# Altium integrated library TI Amplifiers and Linear Instrumentation Amplifier.IntLib: 274 symbols (part 3 of 10)
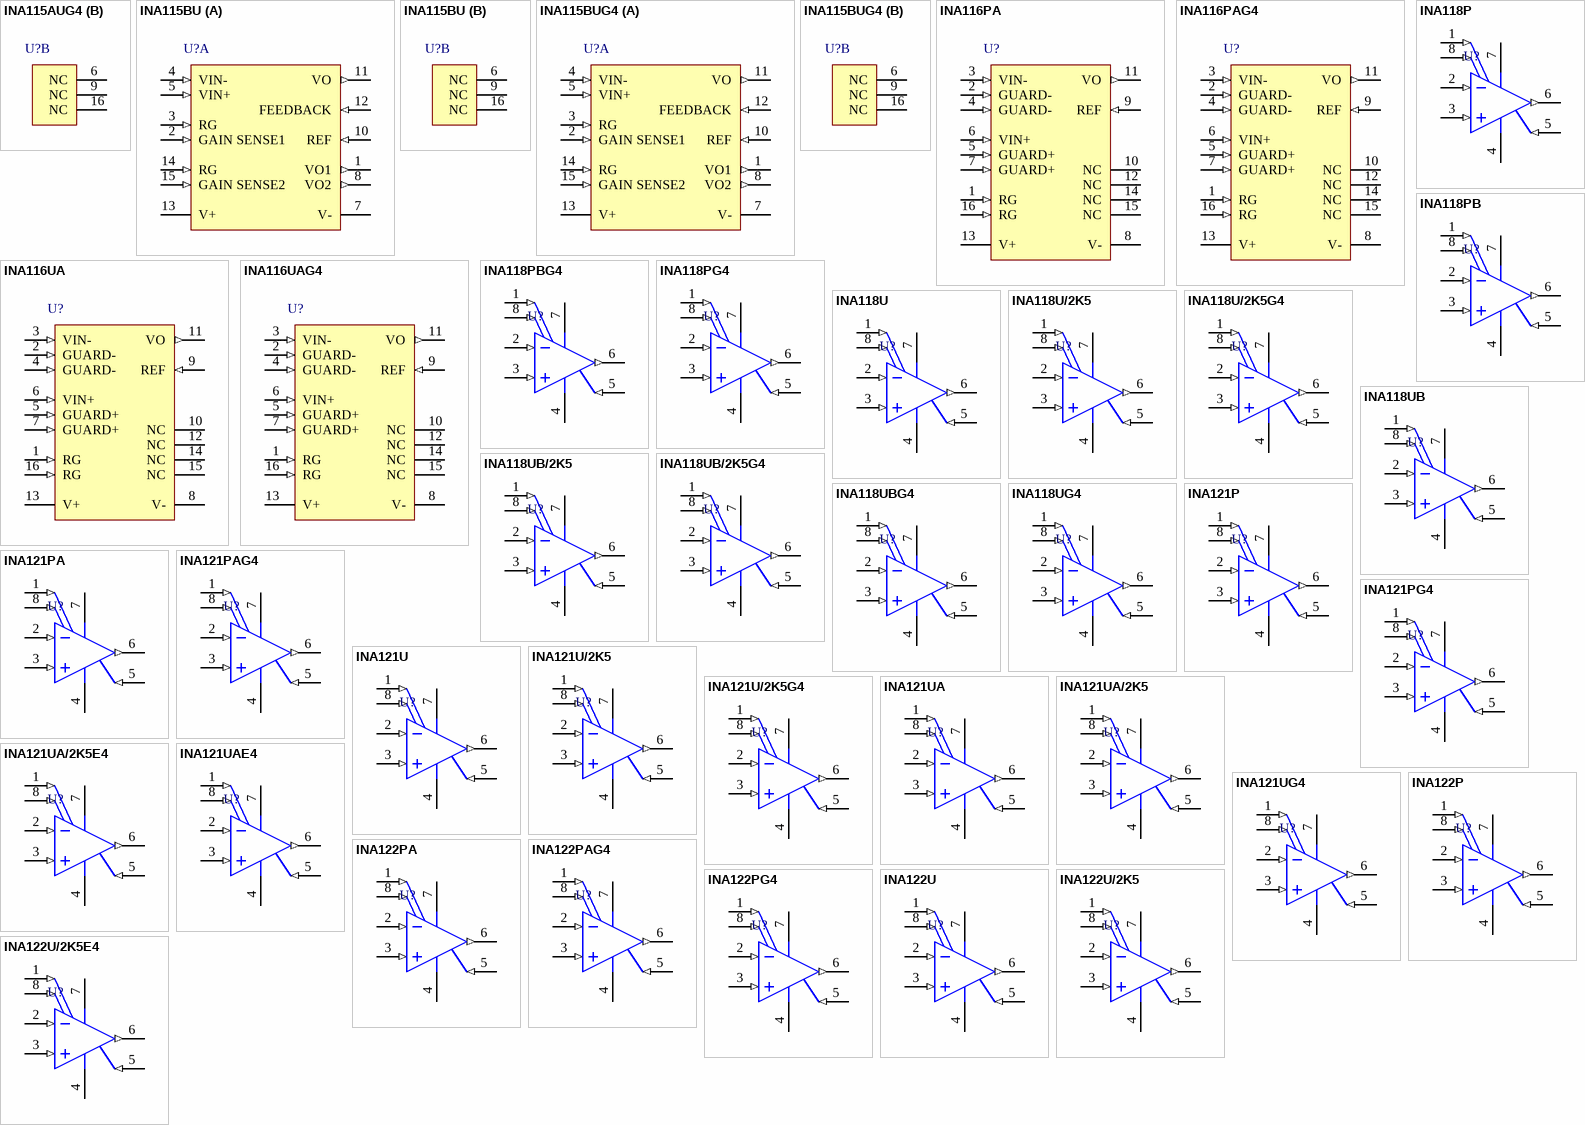
[diagram p10: symbols INA115AUG4 to INA122U/2K5E4]

## INA118PBG4
designator U?
Precision, Low Power Instrumentation Amplifier, -40 to 85 degC, 8-pin DIP (P8), Green (RoHS & no Sb/Br); Manufacturer: Texas Instruments; PartNumber: INA118PBG4; CMRR(Min)(dB): 107; Gain(V/V): 1 to 10000; Input Bias Current (+/-)(Max)(nA): 5; Input Offset (+/-)(Max)(uV): 50; Input Offset Drift (+/-)(Max)(uV/Degrees Celsius): 0.5; Noise at 1kHz(Typ)(nV/rt(Hz)): 10; Non-Linearity (+/-)(Max)(%): 0.002; Number of Channels: 1; Output Offset (+/-)(Max)(uV): 500/G; Output Offset Drift (+/-)(Max)(uV/Degrees Celsius): 20/G; Quiescent Current (+/-)(Typ)(mA): 0.35; SubFamily: Single Supply; Vs(Max)(V): 36; Vs(Min)(V): 2.7; DatasheetVersion: SBOS027; PackageVersion: 4040082/E, 04/2010; PackageReference: P8; PackageDescription: 8-Pin Plastic In-Line, Body 9.59 x 6.35 mm, Pitch 2.54 mm; Supplier 1: Digi-Key; Supplier Part Number 1: INA118PBG4-ND; Supplier 2: Newark; Supplier Part Number 2: 99K2229; Supplier 3: Mouser; Supplier Part Number 3: 595-INA118PBG4; Eco-Plan: Green (RoHS & no Sb/Br); Mounting Technology: Through Hole; Code_JEDEC: MS-001; ComponentLink1Description: Manufacturer URL; ComponentLink1URL: http://www.ti.com/; ComponentLink2Description: Datasheet; ComponentLink2URL: http://www.ti.com/general/docs/lit/getliterature.tsp?genericPartNumber=INA118&fileType=pdf; ComponentLink3Description: Package Specification; ComponentLink3URL: http://www.ti.com/litv/pdf/mpdi001b
footprint TI-P8 (DIP, 8-Leads, Body 10.15x6.6mm, Pitch 2.54mm)
pins: 1 RG (in), 2 VIN- (in), 3 VIN+ (in), 4 V- (power), 5 REF (in), 6 VO (out), 7 V+ (power), 8 RG (in)

## INA118PG4
designator U?
Precision, Low Power Instrumentation Amplifier, -40 to 85 degC, 8-pin DIP (P8), Green (RoHS & no Sb/Br); Manufacturer: Texas Instruments; PartNumber: INA118PG4; CMRR(Min)(dB): 98; Gain(V/V): 1 to 10000; Input Bias Current (+/-)(Max)(nA): 10; Input Offset (+/-)(Max)(uV): 125; Input Offset Drift (+/-)(Max)(uV/Degrees Celsius): 1; Non-Linearity (+/-)(Max)(%): 0.004; Output Offset (+/-)(Max)(uV): 1000/G; Output Offset Drift (+/-)(Max)(uV/Degrees Celsius): 20/G; Quiescent Current (+/-)(Typ)(mA): 0.35; SubFamily: Single Supply; Vs(Max)(V): 36; Vs(Min)(V): 2.7; DatasheetVersion: SBOS027; PackageVersion: 4040082/E, 04/2010; PackageReference: P8; PackageDescription: 8-Pin Plastic In-Line, Body 9.59 x 6.35 mm, Pitch 2.54 mm; Supplier 1: Digi-Key; Supplier Part Number 1: INA118PG4-ND; Supplier 2: Newark; Supplier Part Number 2: 03M8166; Supplier 3: Mouser; Supplier Part Number 3: 595-INA118PG4; Eco-Plan: Green (RoHS & no Sb/Br); Noise at 1kHz(Typ)(nV/rt(Hz)): 10; Number of Channels: 1; Mounting Technology: Through Hole; Code_JEDEC: MS-001; ComponentLink1Description: Manufacturer URL; ComponentLink1URL: http://www.ti.com/; ComponentLink2Description: Datasheet; ComponentLink2URL: http://www.ti.com/general/docs/lit/getliterature.tsp?genericPartNumber=INA118&fileType=pdf; ComponentLink3Description: Package Specification; ComponentLink3URL: http://www.ti.com/litv/pdf/mpdi001b
footprint TI-P8 (DIP, 8-Leads, Body 10.15x6.6mm, Pitch 2.54mm)
pins: 1 RG (in), 2 VIN- (in), 3 VIN+ (in), 4 V- (power), 5 REF (in), 6 VO (out), 7 V+ (power), 8 RG (in)

## INA118U
designator U?
Precision, Low Power Instrumentation Amplifier, -40 to 85 degC, 8-pin SOIC (D8), Green (RoHS & no Sb/Br); Manufacturer: Texas Instruments; PartNumber: INA118U; CMRR(Min)(dB): 98; Gain(V/V): 1 to 10000; Input Bias Current (+/-)(Max)(nA): 10; Input Offset (+/-)(Max)(uV): 125; Input Offset Drift (+/-)(Max)(uV/Degrees Celsius): 1; Non-Linearity (+/-)(Max)(%): 0.004; Output Offset (+/-)(Max)(uV): 1000/G; Output Offset Drift (+/-)(Max)(uV/Degrees Celsius): 20/G; Quiescent Current (+/-)(Typ)(mA): 0.35; SubFamily: Single Supply; Vs(Max)(V): 36; Vs(Min)(V): 2.7; DatasheetVersion: SBOS027; PackageVersion: 4040047-3/M, 06/2011; PackageReference: D8; PackageDescription: 8-Pin Plastic Small Outline, Body 4.9 x 3.9 mm, Pitch 1.27 mm; Supplier 1: Digi-Key; Supplier Part Number 1: INA118U-ND; Supplier 2: Farnell; Supplier Part Number 2: 1212404; Supplier 3: Newark; Supplier Part Number 3: 04M6168; Supplier 4: Mouser; Supplier Part Number 4: 595-INA118U; Eco-Plan: Green (RoHS & no Sb/Br); Noise at 1kHz(Typ)(nV/rt(Hz)): 10; Number of Channels: 1; Mounting Technology: Surface Mount; Code_JEDEC: MS-012; ComponentLink1Description: Manufacturer URL; ComponentLink1URL: http://www.ti.com/; ComponentLink2Description: Datasheet; ComponentLink2URL: http://www.ti.com/general/docs/lit/getliterature.tsp?genericPartNumber=INA118&fileType=pdf; ComponentLink3Description: Package Specification; ComponentLink3URL: http://www.ti.com/litv/pdf/msoi002j
footprint TI-D8_N (SOIC, 8-Leads, Body 5x4mm, Pitch 1.27mm, IPC Medium Density)
footprint TI-D8_L (SOIC, 8-Leads, Body 5x4mm, Pitch 1.27mm, IPC High Density)
footprint TI-D8_M (SOIC, 8-Leads, Body 5x4mm, Pitch 1.27mm, IPC Low Density)
pins: 1 RG (in), 2 VIN- (in), 3 VIN+ (in), 4 V- (power), 5 REF (in), 6 VO (out), 7 V+ (power), 8 RG (in)

## INA118U/2K5
designator U?
Precision, Low Power Instrumentation Amplifier, -40 to 85 degC, 8-pin SOIC (D8), Green (RoHS & no Sb/Br); Manufacturer: Texas Instruments; PartNumber: INA118U/2K5; CMRR(Min)(dB): 98; Gain(V/V): 1 to 10000; Input Bias Current (+/-)(Max)(nA): 10; Input Offset (+/-)(Max)(uV): 125; Input Offset Drift (+/-)(Max)(uV/Degrees Celsius): 1; Non-Linearity (+/-)(Max)(%): 0.004; Output Offset (+/-)(Max)(uV): 1000/G; Output Offset Drift (+/-)(Max)(uV/Degrees Celsius): 20/G; Quiescent Current (+/-)(Typ)(mA): 0.35; SubFamily: Single Supply; Vs(Max)(V): 36; Vs(Min)(V): 2.7; DatasheetVersion: SBOS027; PackageVersion: 4040047-3/M, 06/2011; PackageReference: D8; PackageDescription: 8-Pin Plastic Small Outline, Body 4.9 x 3.9 mm, Pitch 1.27 mm; Supplier 1: Digi-Key; Supplier Part Number 1: 296-26056-2-ND; Supplier 2: Digi-Key; Supplier Part Number 2: 296-26056-1-ND; Supplier 3: Digi-Key; Supplier Part Number 3: 296-26056-6-ND; Supplier 4: Newark; Supplier Part Number 4: 74C9768; Supplier 5: Mouser; Supplier Part Number 5: 595-INA118U/2K5; Eco-Plan: Green (RoHS & no Sb/Br); Noise at 1kHz(Typ)(nV/rt(Hz)): 10; Number of Channels: 1; Mounting Technology: Surface Mount; Code_JEDEC: MS-012; ComponentLink1Description: Manufacturer URL; ComponentLink1URL: http://www.ti.com/; ComponentLink2Description: Datasheet; ComponentLink2URL: http://www.ti.com/general/docs/lit/getliterature.tsp?genericPartNumber=INA118&fileType=pdf; ComponentLink3Description: Package Specification; ComponentLink3URL: http://www.ti.com/litv/pdf/msoi002j
footprint TI-D8_N (SOIC, 8-Leads, Body 5x4mm, Pitch 1.27mm, IPC Medium Density)
footprint TI-D8_L (SOIC, 8-Leads, Body 5x4mm, Pitch 1.27mm, IPC High Density)
footprint TI-D8_M (SOIC, 8-Leads, Body 5x4mm, Pitch 1.27mm, IPC Low Density)
pins: 1 RG (in), 2 VIN- (in), 3 VIN+ (in), 4 V- (power), 5 REF (in), 6 VO (out), 7 V+ (power), 8 RG (in)

## INA118U/2K5G4
designator U?
Precision, Low Power Instrumentation Amplifier, -40 to 85 degC, 8-pin SOIC (D8), Green (RoHS & no Sb/Br); Manufacturer: Texas Instruments; PartNumber: INA118U/2K5G4; CMRR(Min)(dB): 98; Gain(V/V): 1 to 10000; Input Bias Current (+/-)(Max)(nA): 10; Input Offset (+/-)(Max)(uV): 125; Input Offset Drift (+/-)(Max)(uV/Degrees Celsius): 1; Non-Linearity (+/-)(Max)(%): 0.004; Output Offset (+/-)(Max)(uV): 1000/G; Output Offset Drift (+/-)(Max)(uV/Degrees Celsius): 20/G; Quiescent Current (+/-)(Typ)(mA): 0.35; SubFamily: Single Supply; Vs(Max)(V): 36; Vs(Min)(V): 2.7; DatasheetVersion: SBOS027; PackageVersion: 4040047-3/M, 06/2011; PackageReference: D8; PackageDescription: 8-Pin Plastic Small Outline, Body 4.9 x 3.9 mm, Pitch 1.27 mm; Supplier 1: Digi-Key; Supplier Part Number 1: INA118U/2K5G4-ND; Supplier 2: Newark; Supplier Part Number 2: 18M2383; Supplier 3: Mouser; Supplier Part Number 3: 595-INA118U/2K5G4; Eco-Plan: Green (RoHS & no Sb/Br); Noise at 1kHz(Typ)(nV/rt(Hz)): 10; Number of Channels: 1; Mounting Technology: Surface Mount; Code_JEDEC: MS-012; ComponentLink1Description: Manufacturer URL; ComponentLink1URL: http://www.ti.com/; ComponentLink2Description: Datasheet; ComponentLink2URL: http://www.ti.com/general/docs/lit/getliterature.tsp?genericPartNumber=INA118&fileType=pdf; ComponentLink3Description: Package Specification; ComponentLink3URL: http://www.ti.com/litv/pdf/msoi002j
footprint TI-D8_N (SOIC, 8-Leads, Body 5x4mm, Pitch 1.27mm, IPC Medium Density)
footprint TI-D8_L (SOIC, 8-Leads, Body 5x4mm, Pitch 1.27mm, IPC High Density)
footprint TI-D8_M (SOIC, 8-Leads, Body 5x4mm, Pitch 1.27mm, IPC Low Density)
pins: 1 RG (in), 2 VIN- (in), 3 VIN+ (in), 4 V- (power), 5 REF (in), 6 VO (out), 7 V+ (power), 8 RG (in)

## INA118UB
designator U?
Precision, Low Power Instrumentation Amplifier, -40 to 85 degC, 8-pin SOIC (D8), Green (RoHS & no Sb/Br); Manufacturer: Texas Instruments; PartNumber: INA118UB; CMRR(Min)(dB): 107; Gain(V/V): 1 to 10000; Input Bias Current (+/-)(Max)(nA): 5; Input Offset (+/-)(Max)(uV): 50; Input Offset Drift (+/-)(Max)(uV/Degrees Celsius): 0.5; Noise at 1kHz(Typ)(nV/rt(Hz)): 10; Non-Linearity (+/-)(Max)(%): 0.002; Number of Channels: 1; Output Offset (+/-)(Max)(uV): 500/G; Output Offset Drift (+/-)(Max)(uV/Degrees Celsius): 20/G; Quiescent Current (+/-)(Typ)(mA): 0.35; SubFamily: Single Supply; Vs(Max)(V): 36; Vs(Min)(V): 2.7; DatasheetVersion: SBOS027; PackageVersion: 4040047-3/M, 06/2011; PackageReference: D8; PackageDescription: 8-Pin Plastic Small Outline, Body 4.9 x 3.9 mm, Pitch 1.27 mm; Supplier 1: Digi-Key; Supplier Part Number 1: INA118UB-ND; Supplier 2: Farnell; Supplier Part Number 2: 1212405; Supplier 3: Newark; Supplier Part Number 3: 05M0439; Supplier 4: Mouser; Supplier Part Number 4: 595-INA118UB; Eco-Plan: Green (RoHS & no Sb/Br); Mounting Technology: Surface Mount; Code_JEDEC: MS-012; ComponentLink1Description: Manufacturer URL; ComponentLink1URL: http://www.ti.com/; ComponentLink2Description: Datasheet; ComponentLink2URL: http://www.ti.com/general/docs/lit/getliterature.tsp?genericPartNumber=INA118&fileType=pdf; ComponentLink3Description: Package Specification; ComponentLink3URL: http://www.ti.com/litv/pdf/msoi002j
footprint TI-D8_N (SOIC, 8-Leads, Body 5x4mm, Pitch 1.27mm, IPC Medium Density)
footprint TI-D8_L (SOIC, 8-Leads, Body 5x4mm, Pitch 1.27mm, IPC High Density)
footprint TI-D8_M (SOIC, 8-Leads, Body 5x4mm, Pitch 1.27mm, IPC Low Density)
pins: 1 RG (in), 2 VIN- (in), 3 VIN+ (in), 4 V- (power), 5 REF (in), 6 VO (out), 7 V+ (power), 8 RG (in)

## INA118UB/2K5
designator U?
Precision, Low Power Instrumentation Amplifier, -40 to 85 degC, 8-pin SOIC (D8), Green (RoHS & no Sb/Br); Manufacturer: Texas Instruments; PartNumber: INA118UB/2K5; CMRR(Min)(dB): 107; Gain(V/V): 1 to 10000; Input Bias Current (+/-)(Max)(nA): 5; Input Offset (+/-)(Max)(uV): 50; Input Offset Drift (+/-)(Max)(uV/Degrees Celsius): 0.5; Noise at 1kHz(Typ)(nV/rt(Hz)): 10; Non-Linearity (+/-)(Max)(%): 0.002; Number of Channels: 1; Output Offset (+/-)(Max)(uV): 500/G; Output Offset Drift (+/-)(Max)(uV/Degrees Celsius): 20/G; Quiescent Current (+/-)(Typ)(mA): 0.35; SubFamily: Single Supply; Vs(Max)(V): 36; Vs(Min)(V): 2.7; DatasheetVersion: SBOS027; PackageVersion: 4040047-3/M, 06/2011; PackageReference: D8; PackageDescription: 8-Pin Plastic Small Outline, Body 4.9 x 3.9 mm, Pitch 1.27 mm; Supplier 1: Digi-Key; Supplier Part Number 1: INA118UB/2K5-ND; Supplier 2: Newark; Supplier Part Number 2: 74C9769; Supplier 3: Mouser; Supplier Part Number 3: 595-INA118UB/2K5; Eco-Plan: Green (RoHS & no Sb/Br); Mounting Technology: Surface Mount; Code_JEDEC: MS-012; ComponentLink1Description: Manufacturer URL; ComponentLink1URL: http://www.ti.com/; ComponentLink2Description: Datasheet; ComponentLink2URL: http://www.ti.com/general/docs/lit/getliterature.tsp?genericPartNumber=INA118&fileType=pdf; ComponentLink3Description: Package Specification; ComponentLink3URL: http://www.ti.com/litv/pdf/msoi002j
footprint TI-D8_N (SOIC, 8-Leads, Body 5x4mm, Pitch 1.27mm, IPC Medium Density)
footprint TI-D8_L (SOIC, 8-Leads, Body 5x4mm, Pitch 1.27mm, IPC High Density)
footprint TI-D8_M (SOIC, 8-Leads, Body 5x4mm, Pitch 1.27mm, IPC Low Density)
pins: 1 RG (in), 2 VIN- (in), 3 VIN+ (in), 4 V- (power), 5 REF (in), 6 VO (out), 7 V+ (power), 8 RG (in)

## INA118UB/2K5G4
designator U?
Precision, Low Power Instrumentation Amplifier, -40 to 85 degC, 8-pin SOIC (D8), Green (RoHS & no Sb/Br); Manufacturer: Texas Instruments; PartNumber: INA118UB/2K5G4; CMRR(Min)(dB): 107; Gain(V/V): 1 to 10000; Input Bias Current (+/-)(Max)(nA): 5; Input Offset (+/-)(Max)(uV): 50; Input Offset Drift (+/-)(Max)(uV/Degrees Celsius): 0.5; Noise at 1kHz(Typ)(nV/rt(Hz)): 10; Non-Linearity (+/-)(Max)(%): 0.002; Number of Channels: 1; Output Offset (+/-)(Max)(uV): 500/G; Output Offset Drift (+/-)(Max)(uV/Degrees Celsius): 20/G; Quiescent Current (+/-)(Typ)(mA): 0.35; SubFamily: Single Supply; Vs(Max)(V): 36; Vs(Min)(V): 2.7; DatasheetVersion: SBOS027; PackageVersion: 4040047-3/M, 06/2011; PackageReference: D8; PackageDescription: 8-Pin Plastic Small Outline, Body 4.9 x 3.9 mm, Pitch 1.27 mm; Supplier 1: Digi-Key; Supplier Part Number 1: INA118UB/2K5G4-ND; Supplier 2: Mouser; Supplier Part Number 2: 595-INA118UB/2K5G4; Eco-Plan: Green (RoHS & no Sb/Br); Mounting Technology: Surface Mount; Code_JEDEC: MS-012; ComponentLink1Description: Manufacturer URL; ComponentLink1URL: http://www.ti.com/; ComponentLink2Description: Datasheet; ComponentLink2URL: http://www.ti.com/general/docs/lit/getliterature.tsp?genericPartNumber=INA118&fileType=pdf; ComponentLink3Description: Package Specification; ComponentLink3URL: http://www.ti.com/litv/pdf/msoi002j
footprint TI-D8_N (SOIC, 8-Leads, Body 5x4mm, Pitch 1.27mm, IPC Medium Density)
footprint TI-D8_L (SOIC, 8-Leads, Body 5x4mm, Pitch 1.27mm, IPC High Density)
footprint TI-D8_M (SOIC, 8-Leads, Body 5x4mm, Pitch 1.27mm, IPC Low Density)
pins: 1 RG (in), 2 VIN- (in), 3 VIN+ (in), 4 V- (power), 5 REF (in), 6 VO (out), 7 V+ (power), 8 RG (in)

## INA118UBG4
designator U?
Precision, Low Power Instrumentation Amplifier, -40 to 85 degC, 8-pin SOIC (D8), Green (RoHS & no Sb/Br); Manufacturer: Texas Instruments; PartNumber: INA118UBG4; CMRR(Min)(dB): 107; Gain(V/V): 1 to 10000; Input Bias Current (+/-)(Max)(nA): 5; Input Offset (+/-)(Max)(uV): 50; Input Offset Drift (+/-)(Max)(uV/Degrees Celsius): 0.5; Noise at 1kHz(Typ)(nV/rt(Hz)): 10; Non-Linearity (+/-)(Max)(%): 0.002; Number of Channels: 1; Output Offset (+/-)(Max)(uV): 500/G; Output Offset Drift (+/-)(Max)(uV/Degrees Celsius): 20/G; Quiescent Current (+/-)(Typ)(mA): 0.35; SubFamily: Single Supply; Vs(Max)(V): 36; Vs(Min)(V): 2.7; DatasheetVersion: SBOS027; PackageVersion: 4040047-3/M, 06/2011; PackageReference: D8; PackageDescription: 8-Pin Plastic Small Outline, Body 4.9 x 3.9 mm, Pitch 1.27 mm; Supplier 1: Digi-Key; Supplier Part Number 1: INA118UBG4-ND; Supplier 2: Newark; Supplier Part Number 2: 30M1228; Supplier 3: Mouser; Supplier Part Number 3: 595-INA118UBG4; Eco-Plan: Green (RoHS & no Sb/Br); Mounting Technology: Surface Mount; Code_JEDEC: MS-012; ComponentLink1Description: Manufacturer URL; ComponentLink1URL: http://www.ti.com/; ComponentLink2Description: Datasheet; ComponentLink2URL: http://www.ti.com/general/docs/lit/getliterature.tsp?genericPartNumber=INA118&fileType=pdf; ComponentLink3Description: Package Specification; ComponentLink3URL: http://www.ti.com/litv/pdf/msoi002j
footprint TI-D8_N (SOIC, 8-Leads, Body 5x4mm, Pitch 1.27mm, IPC Medium Density)
footprint TI-D8_L (SOIC, 8-Leads, Body 5x4mm, Pitch 1.27mm, IPC High Density)
footprint TI-D8_M (SOIC, 8-Leads, Body 5x4mm, Pitch 1.27mm, IPC Low Density)
pins: 1 RG (in), 2 VIN- (in), 3 VIN+ (in), 4 V- (power), 5 REF (in), 6 VO (out), 7 V+ (power), 8 RG (in)

## INA118UG4
designator U?
Precision, Low Power Instrumentation Amplifier, -40 to 85 degC, 8-pin SOIC (D8), Green (RoHS & no Sb/Br); Manufacturer: Texas Instruments; PartNumber: INA118UG4; CMRR(Min)(dB): 98; Gain(V/V): 1 to 10000; Input Bias Current (+/-)(Max)(nA): 10; Input Offset (+/-)(Max)(uV): 125; Input Offset Drift (+/-)(Max)(uV/Degrees Celsius): 1; Non-Linearity (+/-)(Max)(%): 0.004; Output Offset (+/-)(Max)(uV): 1000/G; Output Offset Drift (+/-)(Max)(uV/Degrees Celsius): 20/G; Quiescent Current (+/-)(Typ)(mA): 0.35; SubFamily: Single Supply; Vs(Max)(V): 36; Vs(Min)(V): 2.7; DatasheetVersion: SBOS027; PackageVersion: 4040047-3/M, 06/2011; PackageReference: D8; PackageDescription: 8-Pin Plastic Small Outline, Body 4.9 x 3.9 mm, Pitch 1.27 mm; Supplier 1: Digi-Key; Supplier Part Number 1: INA118UG4-ND; Supplier 2: Newark; Supplier Part Number 2: 28M6059; Supplier 3: Mouser; Supplier Part Number 3: 595-INA118UG4; Eco-Plan: Green (RoHS & no Sb/Br); Noise at 1kHz(Typ)(nV/rt(Hz)): 10; Number of Channels: 1; Mounting Technology: Surface Mount; Code_JEDEC: MS-012; ComponentLink1Description: Manufacturer URL; ComponentLink1URL: http://www.ti.com/; ComponentLink2Description: Datasheet; ComponentLink2URL: http://www.ti.com/general/docs/lit/getliterature.tsp?genericPartNumber=INA118&fileType=pdf; ComponentLink3Description: Package Specification; ComponentLink3URL: http://www.ti.com/litv/pdf/msoi002j
footprint TI-D8_N (SOIC, 8-Leads, Body 5x4mm, Pitch 1.27mm, IPC Medium Density)
footprint TI-D8_L (SOIC, 8-Leads, Body 5x4mm, Pitch 1.27mm, IPC High Density)
footprint TI-D8_M (SOIC, 8-Leads, Body 5x4mm, Pitch 1.27mm, IPC Low Density)
pins: 1 RG (in), 2 VIN- (in), 3 VIN+ (in), 4 V- (power), 5 REF (in), 6 VO (out), 7 V+ (power), 8 RG (in)

## INA121P
designator U?
FET-Input, Low Power Instrumentation Amplifier, -40 to 85 degC, 8-pin DIP (P8), Green (RoHS & no Sb/Br); Manufacturer: Texas Instruments; PartNumber: INA121P; CMRR(Min)(dB): 96; Gain(V/V): 1 to 10000; Input Bias Current (+/-)(Max)(nA): 0.05; Input Offset (+/-)(Max)(uV): 500; Input Offset Drift (+/-)(Max)(uV/Degrees Celsius): 5; Noise at 1kHz(Typ)(nV/rt(Hz)): 20; Non-Linearity (+/-)(Max)(%): 0.005; Number of Channels: 1; Output Offset (+/-)(Max)(uV): 500/G; Output Offset Drift (+/-)(Max)(uV/Degrees Celsius): 20/G; Quiescent Current (+/-)(Typ)(mA): 0.45; SubFamily: Dual Supply; Vs(Max)(V): 36; Vs(Min)(V): 4.5; DatasheetVersion: SBOS078; PackageVersion: 4040082/E, 04/2010; PackageReference: P8; PackageDescription: 8-Pin Plastic In-Line, Body 9.59 x 6.35 mm, Pitch 2.54 mm; Supplier 1: Digi-Key; Supplier Part Number 1: INA121P-ND; Supplier 2: Farnell; Supplier Part Number 2: 1651851; Supplier 3: Newark; Supplier Part Number 3: 80K5898; Supplier 4: Mouser; Supplier Part Number 4: 595-INA121P; Eco-Plan: Green (RoHS & no Sb/Br); Mounting Technology: Through Hole; Code_JEDEC: MS-001; ComponentLink1Description: Manufacturer URL; ComponentLink1URL: http://www.ti.com/; ComponentLink2Description: Datasheet; ComponentLink2URL: http://www.ti.com/general/docs/lit/getliterature.tsp?genericPartNumber=INA121&fileType=pdf; ComponentLink3Description: Package Specification; ComponentLink3URL: http://www.ti.com/litv/pdf/mpdi001b
footprint TI-P8 (DIP, 8-Leads, Body 10.15x6.6mm, Pitch 2.54mm)
pins: 1 RG (in), 2 VIN- (in), 3 VIN+ (in), 4 V- (power), 5 REF (in), 6 VO (out), 7 V+ (power), 8 RG (in)

## INA121PA
designator U?
FET-Input, Low Power Instrumentation Amplifier, -40 to 85 degC, 8-pin DIP (P8), Green (RoHS & no Sb/Br); Manufacturer: Texas Instruments; PartNumber: INA121PA; CMRR(Min)(dB): 90; Gain(V/V): 1 to 10000; Input Bias Current (+/-)(Max)(nA): 0.05; Input Offset (+/-)(Max)(uV): 1000; Input Offset Drift (+/-)(Max)(uV/Degrees Celsius): 15; Noise at 1kHz(Typ)(nV/rt(Hz)): 20; Non-Linearity (+/-)(Max)(%): 0.008; Number of Channels: 1; Output Offset (+/-)(Max)(uV): 1000/G; Output Offset Drift (+/-)(Max)(uV/Degrees Celsius): 20/G; Quiescent Current (+/-)(Typ)(mA): 0.45; SubFamily: Dual Supply; Vs(Max)(V): 36; Vs(Min)(V): 4.5; DatasheetVersion: SBOS078; PackageVersion: 4040082/E, 04/2010; PackageReference: P8; PackageDescription: 8-Pin Plastic In-Line, Body 9.59 x 6.35 mm, Pitch 2.54 mm; Supplier 1: Digi-Key; Supplier Part Number 1: INA121PA-ND; Supplier 2: Newark; Supplier Part Number 2: 35C0485; Supplier 3: Mouser; Supplier Part Number 3: 595-INA121PA; Eco-Plan: Green (RoHS & no Sb/Br); Mounting Technology: Through Hole; Code_JEDEC: MS-001; ComponentLink1Description: Manufacturer URL; ComponentLink1URL: http://www.ti.com/; ComponentLink2Description: Datasheet; ComponentLink2URL: http://www.ti.com/general/docs/lit/getliterature.tsp?genericPartNumber=INA121&fileType=pdf; ComponentLink3Description: Package Specification; ComponentLink3URL: http://www.ti.com/litv/pdf/mpdi001b
footprint TI-P8 (DIP, 8-Leads, Body 10.15x6.6mm, Pitch 2.54mm)
pins: 1 RG (in), 2 VIN- (in), 3 VIN+ (in), 4 V- (power), 5 REF (in), 6 VO (out), 7 V+ (power), 8 RG (in)

## INA121PAG4
designator U?
FET-Input, Low Power Instrumentation Amplifier, -40 to 85 degC, 8-pin DIP (P8), Green (RoHS & no Sb/Br); Manufacturer: Texas Instruments; PartNumber: INA121PAG4; CMRR(Min)(dB): 90; Gain(V/V): 1 to 10000; Input Bias Current (+/-)(Max)(nA): 0.05; Input Offset (+/-)(Max)(uV): 1000; Input Offset Drift (+/-)(Max)(uV/Degrees Celsius): 15; Noise at 1kHz(Typ)(nV/rt(Hz)): 20; Non-Linearity (+/-)(Max)(%): 0.008; Number of Channels: 1; Output Offset (+/-)(Max)(uV): 1000/G; Output Offset Drift (+/-)(Max)(uV/Degrees Celsius): 20/G; Quiescent Current (+/-)(Typ)(mA): 0.45; SubFamily: Dual Supply; Vs(Max)(V): 36; Vs(Min)(V): 4.5; DatasheetVersion: SBOS078; PackageVersion: 4040082/E, 04/2010; PackageReference: P8; PackageDescription: 8-Pin Plastic In-Line, Body 9.59 x 6.35 mm, Pitch 2.54 mm; Supplier 1: Digi-Key; Supplier Part Number 1: INA121PAG4-ND; Supplier 2: Newark; Supplier Part Number 2: 14M1994; Supplier 3: Mouser; Supplier Part Number 3: 595-INA121PAG4; Eco-Plan: Green (RoHS & no Sb/Br); Mounting Technology: Through Hole; Code_JEDEC: MS-001; ComponentLink1Description: Manufacturer URL; ComponentLink1URL: http://www.ti.com/; ComponentLink2Description: Datasheet; ComponentLink2URL: http://www.ti.com/general/docs/lit/getliterature.tsp?genericPartNumber=INA121&fileType=pdf; ComponentLink3Description: Package Specification; ComponentLink3URL: http://www.ti.com/litv/pdf/mpdi001b
footprint TI-P8 (DIP, 8-Leads, Body 10.15x6.6mm, Pitch 2.54mm)
pins: 1 RG (in), 2 VIN- (in), 3 VIN+ (in), 4 V- (power), 5 REF (in), 6 VO (out), 7 V+ (power), 8 RG (in)

## INA121PG4
designator U?
FET-Input, Low Power Instrumentation Amplifier, -40 to 85 degC, 8-pin DIP (P8), Green (RoHS & no Sb/Br); Manufacturer: Texas Instruments; PartNumber: INA121PG4; CMRR(Min)(dB): 96; Gain(V/V): 1 to 10000; Input Bias Current (+/-)(Max)(nA): 0.05; Input Offset (+/-)(Max)(uV): 500; Input Offset Drift (+/-)(Max)(uV/Degrees Celsius): 5; Noise at 1kHz(Typ)(nV/rt(Hz)): 20; Non-Linearity (+/-)(Max)(%): 0.005; Number of Channels: 1; Output Offset (+/-)(Max)(uV): 500/G; Output Offset Drift (+/-)(Max)(uV/Degrees Celsius): 20/G; Quiescent Current (+/-)(Typ)(mA): 0.45; SubFamily: Dual Supply; Vs(Max)(V): 36; Vs(Min)(V): 4.5; DatasheetVersion: SBOS078; PackageVersion: 4040082/E, 04/2010; PackageReference: P8; PackageDescription: 8-Pin Plastic In-Line, Body 9.59 x 6.35 mm, Pitch 2.54 mm; Supplier 1: Digi-Key; Supplier Part Number 1: INA121PG4-ND; Supplier 2: Newark; Supplier Part Number 2: 28M6060; Supplier 3: Mouser; Supplier Part Number 3: 595-INA121PG4; Eco-Plan: Green (RoHS & no Sb/Br); Mounting Technology: Through Hole; Code_JEDEC: MS-001; ComponentLink1Description: Manufacturer URL; ComponentLink1URL: http://www.ti.com/; ComponentLink2Description: Datasheet; ComponentLink2URL: http://www.ti.com/general/docs/lit/getliterature.tsp?genericPartNumber=INA121&fileType=pdf; ComponentLink3Description: Package Specification; ComponentLink3URL: http://www.ti.com/litv/pdf/mpdi001b
footprint TI-P8 (DIP, 8-Leads, Body 10.15x6.6mm, Pitch 2.54mm)
pins: 1 RG (in), 2 VIN- (in), 3 VIN+ (in), 4 V- (power), 5 REF (in), 6 VO (out), 7 V+ (power), 8 RG (in)

## INA121U
designator U?
FET-Input, Low Power Instrumentation Amplifier, -40 to 85 degC, 8-pin SOIC (D8), Green (RoHS & no Sb/Br); Manufacturer: Texas Instruments; PartNumber: INA121U; CMRR(Min)(dB): 96; Gain(V/V): 1 to 10000; Input Bias Current (+/-)(Max)(nA): 0.05; Input Offset (+/-)(Max)(uV): 500; Input Offset Drift (+/-)(Max)(uV/Degrees Celsius): 5; Noise at 1kHz(Typ)(nV/rt(Hz)): 20; Non-Linearity (+/-)(Max)(%): 0.005; Number of Channels: 1; Output Offset (+/-)(Max)(uV): 500/G; Output Offset Drift (+/-)(Max)(uV/Degrees Celsius): 20/G; Quiescent Current (+/-)(Typ)(mA): 0.45; SubFamily: Dual Supply; Vs(Max)(V): 36; Vs(Min)(V): 4.5; DatasheetVersion: SBOS078; PackageVersion: 4040047-3/M, 06/2011; PackageReference: D8; PackageDescription: 8-Pin Plastic Small Outline, Body 4.9 x 3.9 mm, Pitch 1.27 mm; Supplier 1: Digi-Key; Supplier Part Number 1: INA121U-ND; Supplier 2: Farnell; Supplier Part Number 2: 1212406; Supplier 3: Newark; Supplier Part Number 3: 35C1723; Supplier 4: Mouser; Supplier Part Number 4: 595-INA121U; Eco-Plan: Green (RoHS & no Sb/Br); Mounting Technology: Surface Mount; Code_JEDEC: MS-012; ComponentLink1Description: Manufacturer URL; ComponentLink1URL: http://www.ti.com/; ComponentLink2Description: Datasheet; ComponentLink2URL: http://www.ti.com/general/docs/lit/getliterature.tsp?genericPartNumber=INA121&fileType=pdf; ComponentLink3Description: Package Specification; ComponentLink3URL: http://www.ti.com/litv/pdf/msoi002j
footprint TI-D8_N (SOIC, 8-Leads, Body 5x4mm, Pitch 1.27mm, IPC Medium Density)
footprint TI-D8_L (SOIC, 8-Leads, Body 5x4mm, Pitch 1.27mm, IPC High Density)
footprint TI-D8_M (SOIC, 8-Leads, Body 5x4mm, Pitch 1.27mm, IPC Low Density)
pins: 1 RG (in), 2 VIN- (in), 3 VIN+ (in), 4 V- (power), 5 REF (in), 6 VO (out), 7 V+ (power), 8 RG (in)

## INA121U/2K5
designator U?
FET-Input, Low Power Instrumentation Amplifier, -40 to 85 degC, 8-pin SOIC (D8), Green (RoHS & no Sb/Br); Manufacturer: Texas Instruments; PartNumber: INA121U/2K5; CMRR(Min)(dB): 96; Gain(V/V): 1 to 10000; Input Bias Current (+/-)(Max)(nA): 0.05; Input Offset (+/-)(Max)(uV): 500; Input Offset Drift (+/-)(Max)(uV/Degrees Celsius): 5; Noise at 1kHz(Typ)(nV/rt(Hz)): 20; Non-Linearity (+/-)(Max)(%): 0.005; Number of Channels: 1; Output Offset (+/-)(Max)(uV): 500/G; Output Offset Drift (+/-)(Max)(uV/Degrees Celsius): 20/G; Quiescent Current (+/-)(Typ)(mA): 0.45; SubFamily: Dual Supply; Vs(Max)(V): 36; Vs(Min)(V): 4.5; DatasheetVersion: SBOS078; PackageVersion: 4040047-3/M, 06/2011; PackageReference: D8; PackageDescription: 8-Pin Plastic Small Outline, Body 4.9 x 3.9 mm, Pitch 1.27 mm; Supplier 1: Digi-Key; Supplier Part Number 1: INA121UTR-ND; Supplier 2: Mouser; Supplier Part Number 2: 595-INA121U/2K5; Eco-Plan: Green (RoHS & no Sb/Br); Mounting Technology: Surface Mount; Code_JEDEC: MS-012; ComponentLink1Description: Manufacturer URL; ComponentLink1URL: http://www.ti.com/; ComponentLink2Description: Datasheet; ComponentLink2URL: http://www.ti.com/general/docs/lit/getliterature.tsp?genericPartNumber=INA121&fileType=pdf; ComponentLink3Description: Package Specification; ComponentLink3URL: http://www.ti.com/litv/pdf/msoi002j
footprint TI-D8_N (SOIC, 8-Leads, Body 5x4mm, Pitch 1.27mm, IPC Medium Density)
footprint TI-D8_L (SOIC, 8-Leads, Body 5x4mm, Pitch 1.27mm, IPC High Density)
footprint TI-D8_M (SOIC, 8-Leads, Body 5x4mm, Pitch 1.27mm, IPC Low Density)
pins: 1 RG (in), 2 VIN- (in), 3 VIN+ (in), 4 V- (power), 5 REF (in), 6 VO (out), 7 V+ (power), 8 RG (in)

## INA121U/2K5G4
designator U?
FET-Input, Low Power Instrumentation Amplifier, -40 to 85 degC, 8-pin SOIC (D8), Green (RoHS & no Sb/Br); Manufacturer: Texas Instruments; PartNumber: INA121U/2K5G4; CMRR(Min)(dB): 96; Gain(V/V): 1 to 10000; Input Bias Current (+/-)(Max)(nA): 0.05; Input Offset (+/-)(Max)(uV): 500; Input Offset Drift (+/-)(Max)(uV/Degrees Celsius): 5; Noise at 1kHz(Typ)(nV/rt(Hz)): 20; Non-Linearity (+/-)(Max)(%): 0.005; Number of Channels: 1; Output Offset (+/-)(Max)(uV): 500/G; Output Offset Drift (+/-)(Max)(uV/Degrees Celsius): 20/G; Quiescent Current (+/-)(Typ)(mA): 0.45; SubFamily: Dual Supply; Vs(Max)(V): 36; Vs(Min)(V): 4.5; DatasheetVersion: SBOS078; PackageVersion: 4040047-3/M, 06/2011; PackageReference: D8; PackageDescription: 8-Pin Plastic Small Outline, Body 4.9 x 3.9 mm, Pitch 1.27 mm; Supplier 1: Digi-Key; Supplier Part Number 1: INA121U/2K5G4-ND; Supplier 2: Mouser; Supplier Part Number 2: 595-INA121U/2K5G4; Eco-Plan: Green (RoHS & no Sb/Br); Mounting Technology: Surface Mount; Code_JEDEC: MS-012; ComponentLink1Description: Manufacturer URL; ComponentLink1URL: http://www.ti.com/; ComponentLink2Description: Datasheet; ComponentLink2URL: http://www.ti.com/general/docs/lit/getliterature.tsp?genericPartNumber=INA121&fileType=pdf; ComponentLink3Description: Package Specification; ComponentLink3URL: http://www.ti.com/litv/pdf/msoi002j
footprint TI-D8_N (SOIC, 8-Leads, Body 5x4mm, Pitch 1.27mm, IPC Medium Density)
footprint TI-D8_L (SOIC, 8-Leads, Body 5x4mm, Pitch 1.27mm, IPC High Density)
footprint TI-D8_M (SOIC, 8-Leads, Body 5x4mm, Pitch 1.27mm, IPC Low Density)
pins: 1 RG (in), 2 VIN- (in), 3 VIN+ (in), 4 V- (power), 5 REF (in), 6 VO (out), 7 V+ (power), 8 RG (in)

## INA121UA
designator U?
FET-Input, Low Power Instrumentation Amplifier, -40 to 85 degC, 8-pin SOIC (D8), Green (RoHS & no Sb/Br); Manufacturer: Texas Instruments; PartNumber: INA121UA; CMRR(Min)(dB): 90; Gain(V/V): 1 to 10000; Input Bias Current (+/-)(Max)(nA): 0.05; Input Offset (+/-)(Max)(uV): 1000; Input Offset Drift (+/-)(Max)(uV/Degrees Celsius): 15; Noise at 1kHz(Typ)(nV/rt(Hz)): 20; Non-Linearity (+/-)(Max)(%): 0.008; Number of Channels: 1; Output Offset (+/-)(Max)(uV): 1000/G; Output Offset Drift (+/-)(Max)(uV/Degrees Celsius): 20/G; Quiescent Current (+/-)(Typ)(mA): 0.45; SubFamily: Dual Supply; Vs(Max)(V): 36; Vs(Min)(V): 4.5; DatasheetVersion: SBOS078; PackageVersion: 4040047-3/M, 06/2011; PackageReference: D8; PackageDescription: 8-Pin Plastic Small Outline, Body 4.9 x 3.9 mm, Pitch 1.27 mm; Supplier 1: Digi-Key; Supplier Part Number 1: INA121UA-ND; Supplier 2: Farnell; Supplier Part Number 2: 1648644; Supplier 3: Newark; Supplier Part Number 3: 35C0486; Supplier 4: Mouser; Supplier Part Number 4: 595-INA121UA; Eco-Plan: Green (RoHS & no Sb/Br); Mounting Technology: Surface Mount; Code_JEDEC: MS-012; ComponentLink1Description: Manufacturer URL; ComponentLink1URL: http://www.ti.com/; ComponentLink2Description: Datasheet; ComponentLink2URL: http://www.ti.com/general/docs/lit/getliterature.tsp?genericPartNumber=INA121&fileType=pdf; ComponentLink3Description: Package Specification; ComponentLink3URL: http://www.ti.com/litv/pdf/msoi002j
footprint TI-D8_N (SOIC, 8-Leads, Body 5x4mm, Pitch 1.27mm, IPC Medium Density)
footprint TI-D8_L (SOIC, 8-Leads, Body 5x4mm, Pitch 1.27mm, IPC High Density)
footprint TI-D8_M (SOIC, 8-Leads, Body 5x4mm, Pitch 1.27mm, IPC Low Density)
pins: 1 RG (in), 2 VIN- (in), 3 VIN+ (in), 4 V- (power), 5 REF (in), 6 VO (out), 7 V+ (power), 8 RG (in)

## INA121UA/2K5
designator U?
FET-Input, Low Power Instrumentation Amplifier, -40 to 85 degC, 8-pin SOIC (D8), Green (RoHS & no Sb/Br); Manufacturer: Texas Instruments; PartNumber: INA121UA/2K5; CMRR(Min)(dB): 90; Gain(V/V): 1 to 10000; Input Bias Current (+/-)(Max)(nA): 0.05; Input Offset (+/-)(Max)(uV): 1000; Input Offset Drift (+/-)(Max)(uV/Degrees Celsius): 15; Noise at 1kHz(Typ)(nV/rt(Hz)): 20; Non-Linearity (+/-)(Max)(%): 0.008; Number of Channels: 1; Output Offset (+/-)(Max)(uV): 1000/G; Output Offset Drift (+/-)(Max)(uV/Degrees Celsius): 20/G; Quiescent Current (+/-)(Typ)(mA): 0.45; SubFamily: Dual Supply; Vs(Max)(V): 36; Vs(Min)(V): 4.5; DatasheetVersion: SBOS078; PackageVersion: 4040047-3/M, 06/2011; PackageReference: D8; PackageDescription: 8-Pin Plastic Small Outline, Body 4.9 x 3.9 mm, Pitch 1.27 mm; Supplier 1: Digi-Key; Supplier Part Number 1: INA121UATR-ND; Supplier 2: Newark; Supplier Part Number 2: 74C9771; Supplier 3: Mouser; Supplier Part Number 3: 595-INA121UA/2K5; Eco-Plan: Green (RoHS & no Sb/Br); Mounting Technology: Surface Mount; Code_JEDEC: MS-012; ComponentLink1Description: Manufacturer URL; ComponentLink1URL: http://www.ti.com/; ComponentLink2Description: Datasheet; ComponentLink2URL: http://www.ti.com/general/docs/lit/getliterature.tsp?genericPartNumber=INA121&fileType=pdf; ComponentLink3Description: Package Specification; ComponentLink3URL: http://www.ti.com/litv/pdf/msoi002j
footprint TI-D8_N (SOIC, 8-Leads, Body 5x4mm, Pitch 1.27mm, IPC Medium Density)
footprint TI-D8_L (SOIC, 8-Leads, Body 5x4mm, Pitch 1.27mm, IPC High Density)
footprint TI-D8_M (SOIC, 8-Leads, Body 5x4mm, Pitch 1.27mm, IPC Low Density)
pins: 1 RG (in), 2 VIN- (in), 3 VIN+ (in), 4 V- (power), 5 REF (in), 6 VO (out), 7 V+ (power), 8 RG (in)

## INA121UA/2K5E4
designator U?
FET-Input, Low Power Instrumentation Amplifier, -40 to 85 degC, 8-pin SOIC (D8), Green (RoHS & no Sb/Br); Manufacturer: Texas Instruments; PartNumber: INA121UA/2K5E4; CMRR(Min)(dB): 90; Gain(V/V): 1 to 10000; Input Bias Current (+/-)(Max)(nA): 0.05; Input Offset (+/-)(Max)(uV): 1000; Input Offset Drift (+/-)(Max)(uV/Degrees Celsius): 15; Noise at 1kHz(Typ)(nV/rt(Hz)): 20; Non-Linearity (+/-)(Max)(%): 0.008; Number of Channels: 1; Output Offset (+/-)(Max)(uV): 1000/G; Output Offset Drift (+/-)(Max)(uV/Degrees Celsius): 20/G; Quiescent Current (+/-)(Typ)(mA): 0.45; SubFamily: Dual Supply; Vs(Max)(V): 36; Vs(Min)(V): 4.5; DatasheetVersion: SBOS078; PackageVersion: 4040047-3/M, 06/2011; PackageReference: D8; PackageDescription: 8-Pin Plastic Small Outline, Body 4.9 x 3.9 mm, Pitch 1.27 mm; Supplier 1: Digi-Key; Supplier Part Number 1: INA121UA/2K5E4-ND; Supplier 2: Mouser; Supplier Part Number 2: 595-INA121UA/2K5E4; Eco-Plan: Green (RoHS & no Sb/Br); Mounting Technology: Surface Mount; Code_JEDEC: MS-012; ComponentLink1Description: Manufacturer URL; ComponentLink1URL: http://www.ti.com/; ComponentLink2Description: Datasheet; ComponentLink2URL: http://www.ti.com/general/docs/lit/getliterature.tsp?genericPartNumber=INA121&fileType=pdf; ComponentLink3Description: Package Specification; ComponentLink3URL: http://www.ti.com/litv/pdf/msoi002j
footprint TI-D8_N (SOIC, 8-Leads, Body 5x4mm, Pitch 1.27mm, IPC Medium Density)
footprint TI-D8_L (SOIC, 8-Leads, Body 5x4mm, Pitch 1.27mm, IPC High Density)
footprint TI-D8_M (SOIC, 8-Leads, Body 5x4mm, Pitch 1.27mm, IPC Low Density)
pins: 1 RG (in), 2 VIN- (in), 3 VIN+ (in), 4 V- (power), 5 REF (in), 6 VO (out), 7 V+ (power), 8 RG (in)

## INA121UAE4
designator U?
FET-Input, Low Power Instrumentation Amplifier, -40 to 85 degC, 8-pin SOIC (D8), Green (RoHS & no Sb/Br); Manufacturer: Texas Instruments; PartNumber: INA121UAE4; CMRR(Min)(dB): 90; Gain(V/V): 1 to 10000; Input Bias Current (+/-)(Max)(nA): 0.05; Input Offset (+/-)(Max)(uV): 1000; Input Offset Drift (+/-)(Max)(uV/Degrees Celsius): 15; Noise at 1kHz(Typ)(nV/rt(Hz)): 20; Non-Linearity (+/-)(Max)(%): 0.008; Number of Channels: 1; Output Offset (+/-)(Max)(uV): 1000/G; Output Offset Drift (+/-)(Max)(uV/Degrees Celsius): 20/G; Quiescent Current (+/-)(Typ)(mA): 0.45; SubFamily: Dual Supply; Vs(Max)(V): 36; Vs(Min)(V): 4.5; DatasheetVersion: SBOS078; PackageVersion: 4040047-3/M, 06/2011; PackageReference: D8; PackageDescription: 8-Pin Plastic Small Outline, Body 4.9 x 3.9 mm, Pitch 1.27 mm; Supplier 1: Digi-Key; Supplier Part Number 1: INA121UAE4-ND; Supplier 2: Mouser; Supplier Part Number 2: 595-INA121UAE4; Eco-Plan: Green (RoHS & no Sb/Br); Mounting Technology: Surface Mount; Code_JEDEC: MS-012; ComponentLink1Description: Manufacturer URL; ComponentLink1URL: http://www.ti.com/; ComponentLink2Description: Datasheet; ComponentLink2URL: http://www.ti.com/general/docs/lit/getliterature.tsp?genericPartNumber=INA121&fileType=pdf; ComponentLink3Description: Package Specification; ComponentLink3URL: http://www.ti.com/litv/pdf/msoi002j
footprint TI-D8_N (SOIC, 8-Leads, Body 5x4mm, Pitch 1.27mm, IPC Medium Density)
footprint TI-D8_L (SOIC, 8-Leads, Body 5x4mm, Pitch 1.27mm, IPC High Density)
footprint TI-D8_M (SOIC, 8-Leads, Body 5x4mm, Pitch 1.27mm, IPC Low Density)
pins: 1 RG (in), 2 VIN- (in), 3 VIN+ (in), 4 V- (power), 5 REF (in), 6 VO (out), 7 V+ (power), 8 RG (in)

## INA121UG4
designator U?
FET-Input, Low Power Instrumentation Amplifier, -40 to 85 degC, 8-pin SOIC (D8), Green (RoHS & no Sb/Br); Manufacturer: Texas Instruments; PartNumber: INA121UG4; CMRR(Min)(dB): 96; Gain(V/V): 1 to 10000; Input Bias Current (+/-)(Max)(nA): 0.05; Input Offset (+/-)(Max)(uV): 500; Input Offset Drift (+/-)(Max)(uV/Degrees Celsius): 5; Noise at 1kHz(Typ)(nV/rt(Hz)): 20; Non-Linearity (+/-)(Max)(%): 0.005; Number of Channels: 1; Output Offset (+/-)(Max)(uV): 500/G; Output Offset Drift (+/-)(Max)(uV/Degrees Celsius): 20/G; Quiescent Current (+/-)(Typ)(mA): 0.45; SubFamily: Dual Supply; Vs(Max)(V): 36; Vs(Min)(V): 4.5; DatasheetVersion: SBOS078; PackageVersion: 4040047-3/M, 06/2011; PackageReference: D8; PackageDescription: 8-Pin Plastic Small Outline, Body 4.9 x 3.9 mm, Pitch 1.27 mm; Supplier 1: Digi-Key; Supplier Part Number 1: INA121UG4-ND; Supplier 2: Newark; Supplier Part Number 2: 28M6063; Supplier 3: Mouser; Supplier Part Number 3: 595-INA121UG4; Eco-Plan: Green (RoHS & no Sb/Br); Mounting Technology: Surface Mount; Code_JEDEC: MS-012; ComponentLink1Description: Manufacturer URL; ComponentLink1URL: http://www.ti.com/; ComponentLink2Description: Datasheet; ComponentLink2URL: http://www.ti.com/general/docs/lit/getliterature.tsp?genericPartNumber=INA121&fileType=pdf; ComponentLink3Description: Package Specification; ComponentLink3URL: http://www.ti.com/litv/pdf/msoi002j
footprint TI-D8_N (SOIC, 8-Leads, Body 5x4mm, Pitch 1.27mm, IPC Medium Density)
footprint TI-D8_L (SOIC, 8-Leads, Body 5x4mm, Pitch 1.27mm, IPC High Density)
footprint TI-D8_M (SOIC, 8-Leads, Body 5x4mm, Pitch 1.27mm, IPC Low Density)
pins: 1 RG (in), 2 VIN- (in), 3 VIN+ (in), 4 V- (power), 5 REF (in), 6 VO (out), 7 V+ (power), 8 RG (in)

## INA122P
designator U?
Single Supply, MicroPower Instrumentation Amplifier, -40 to 85 degC, 8-pin DIP (P8), Green (RoHS & no Sb/Br); Manufacturer: Texas Instruments; PartNumber: INA122P; CMRR(Min)(dB): 83; Gain(V/V): 5 to 10000; Input Bias Current (+/-)(Max)(nA): 25; Input Offset (+/-)(Max)(uV): 250; Input Offset Drift (+/-)(Max)(uV/Degrees Celsius): 3; Noise at 1kHz(Typ)(nV/rt(Hz)): 60; Non-Linearity (+/-)(Max)(%): 0.012; Number of Channels: 1; Quiescent Current (+/-)(Typ)(mA): 0.06; Vs(Max)(V): 36; Vs(Min)(V): 2.2; DatasheetVersion: SBOS069; PackageVersion: 4040082/E, 04/2010; PackageReference: P8; PackageDescription: 8-Pin Plastic In-Line, Body 9.59 x 6.35 mm, Pitch 2.54 mm; Supplier 1: Digi-Key; Supplier Part Number 1: INA122P-ND; Supplier 2: Farnell; Supplier Part Number 2: 1459460; Supplier 3: Newark; Supplier Part Number 3: 15M0948; Supplier 4: Mouser; Supplier Part Number 4: 595-INA122P; Eco-Plan: Green (RoHS & no Sb/Br); SubFamily: Single Supply; Mounting Technology: Through Hole; Code_JEDEC: MS-001; ComponentLink1Description: Manufacturer URL; ComponentLink1URL: http://www.ti.com/; ComponentLink2Description: Datasheet; ComponentLink2URL: http://www.ti.com/general/docs/lit/getliterature.tsp?genericPartNumber=INA122&fileType=pdf; ComponentLink3Description: Package Specification; ComponentLink3URL: http://www.ti.com/litv/pdf/mpdi001b
footprint TI-P8 (DIP, 8-Leads, Body 10.15x6.6mm, Pitch 2.54mm)
pins: 1 RG (in), 2 VIN- (in), 3 VIN+ (in), 4 V- (power), 5 REF (in), 6 VO (out), 7 V+ (power), 8 RG (in)

## INA122PA
designator U?
Single Supply, MicroPower Instrumentation Amplifier, -40 to 85 degC, 8-pin DIP (P8), Green (RoHS & no Sb/Br); Manufacturer: Texas Instruments; PartNumber: INA122PA; CMRR(Min)(dB): 76; Gain(V/V): 5 to 10000; Input Bias Current (+/-)(Max)(nA): 50; Input Offset (+/-)(Max)(uV): 500; Input Offset Drift (+/-)(Max)(uV/Degrees Celsius): 5; Noise at 1kHz(Typ)(nV/rt(Hz)): 60; Non-Linearity (+/-)(Max)(%): 0.024; Number of Channels: 1; Quiescent Current (+/-)(Typ)(mA): 0.06; Vs(Max)(V): 36; Vs(Min)(V): 2.2; DatasheetVersion: SBOS069; PackageVersion: 4040082/E, 04/2010; PackageReference: P8; PackageDescription: 8-Pin Plastic In-Line, Body 9.59 x 6.35 mm, Pitch 2.54 mm; Supplier 1: Digi-Key; Supplier Part Number 1: INA122PA-ND; Supplier 2: Farnell; Supplier Part Number 2: 1212848; Supplier 3: Newark; Supplier Part Number 3: 74K3813; Supplier 4: Mouser; Supplier Part Number 4: 595-INA122PA; Eco-Plan: Green (RoHS & no Sb/Br); SubFamily: Single Supply; Mounting Technology: Through Hole; Code_JEDEC: MS-001; ComponentLink1Description: Manufacturer URL; ComponentLink1URL: http://www.ti.com/; ComponentLink2Description: Datasheet; ComponentLink2URL: http://www.ti.com/general/docs/lit/getliterature.tsp?genericPartNumber=INA122&fileType=pdf; ComponentLink3Description: Package Specification; ComponentLink3URL: http://www.ti.com/litv/pdf/mpdi001b
footprint TI-P8 (DIP, 8-Leads, Body 10.15x6.6mm, Pitch 2.54mm)
pins: 1 RG (in), 2 VIN- (in), 3 VIN+ (in), 4 V- (power), 5 REF (in), 6 VO (out), 7 V+ (power), 8 RG (in)

## INA122PAG4
designator U?
Single Supply, MicroPower Instrumentation Amplifier, -40 to 85 degC, 8-pin DIP (P8), Green (RoHS & no Sb/Br); Manufacturer: Texas Instruments; PartNumber: INA122PAG4; CMRR(Min)(dB): 76; Gain(V/V): 5 to 10000; Input Bias Current (+/-)(Max)(nA): 50; Input Offset (+/-)(Max)(uV): 500; Input Offset Drift (+/-)(Max)(uV/Degrees Celsius): 5; Noise at 1kHz(Typ)(nV/rt(Hz)): 60; Non-Linearity (+/-)(Max)(%): 0.024; Number of Channels: 1; Quiescent Current (+/-)(Typ)(mA): 0.06; Vs(Max)(V): 36; Vs(Min)(V): 2.2; DatasheetVersion: SBOS069; PackageVersion: 4040082/E, 04/2010; PackageReference: P8; PackageDescription: 8-Pin Plastic In-Line, Body 9.59 x 6.35 mm, Pitch 2.54 mm; Supplier 1: Digi-Key; Supplier Part Number 1: INA122PAG4-ND; Supplier 2: Newark; Supplier Part Number 2: 99K2230; Supplier 3: Mouser; Supplier Part Number 3: 595-INA122PAG4; Eco-Plan: Green (RoHS & no Sb/Br); SubFamily: Single Supply; Mounting Technology: Through Hole; Code_JEDEC: MS-001; ComponentLink1Description: Manufacturer URL; ComponentLink1URL: http://www.ti.com/; ComponentLink2Description: Datasheet; ComponentLink2URL: http://www.ti.com/general/docs/lit/getliterature.tsp?genericPartNumber=INA122&fileType=pdf; ComponentLink3Description: Package Specification; ComponentLink3URL: http://www.ti.com/litv/pdf/mpdi001b
footprint TI-P8 (DIP, 8-Leads, Body 10.15x6.6mm, Pitch 2.54mm)
pins: 1 RG (in), 2 VIN- (in), 3 VIN+ (in), 4 V- (power), 5 REF (in), 6 VO (out), 7 V+ (power), 8 RG (in)

## INA122PG4
designator U?
Single Supply, MicroPower Instrumentation Amplifier, -40 to 85 degC, 8-pin DIP (P8), Green (RoHS & no Sb/Br); Manufacturer: Texas Instruments; PartNumber: INA122PG4; CMRR(Min)(dB): 83; Gain(V/V): 5 to 10000; Input Bias Current (+/-)(Max)(nA): 25; Input Offset (+/-)(Max)(uV): 250; Input Offset Drift (+/-)(Max)(uV/Degrees Celsius): 3; Noise at 1kHz(Typ)(nV/rt(Hz)): 60; Non-Linearity (+/-)(Max)(%): 0.012; Number of Channels: 1; Quiescent Current (+/-)(Typ)(mA): 0.06; Vs(Max)(V): 36; Vs(Min)(V): 2.2; DatasheetVersion: SBOS069; PackageVersion: 4040082/E, 04/2010; PackageReference: P8; PackageDescription: 8-Pin Plastic In-Line, Body 9.59 x 6.35 mm, Pitch 2.54 mm; Supplier 1: Digi-Key; Supplier Part Number 1: INA122PG4-ND; Supplier 2: Newark; Supplier Part Number 2: 28M6064; Supplier 3: Mouser; Supplier Part Number 3: 595-INA122PG4; Eco-Plan: Green (RoHS & no Sb/Br); SubFamily: Single Supply; Mounting Technology: Through Hole; Code_JEDEC: MS-001; ComponentLink1Description: Manufacturer URL; ComponentLink1URL: http://www.ti.com/; ComponentLink2Description: Datasheet; ComponentLink2URL: http://www.ti.com/general/docs/lit/getliterature.tsp?genericPartNumber=INA122&fileType=pdf; ComponentLink3Description: Package Specification; ComponentLink3URL: http://www.ti.com/litv/pdf/mpdi001b
footprint TI-P8 (DIP, 8-Leads, Body 10.15x6.6mm, Pitch 2.54mm)
pins: 1 RG (in), 2 VIN- (in), 3 VIN+ (in), 4 V- (power), 5 REF (in), 6 VO (out), 7 V+ (power), 8 RG (in)

## INA122U
designator U?
Single Supply, MicroPower Instrumentation Amplifier, -40 to 85 degC, 8-pin SOIC (D8), Green (RoHS & no Sb/Br); Manufacturer: Texas Instruments; PartNumber: INA122U; CMRR(Min)(dB): 83; Gain(V/V): 5 to 10000; Input Bias Current (+/-)(Max)(nA): 25; Input Offset (+/-)(Max)(uV): 250; Input Offset Drift (+/-)(Max)(uV/Degrees Celsius): 3; Noise at 1kHz(Typ)(nV/rt(Hz)): 60; Non-Linearity (+/-)(Max)(%): 0.012; Number of Channels: 1; Quiescent Current (+/-)(Typ)(mA): 0.06; Vs(Max)(V): 36; Vs(Min)(V): 2.2; DatasheetVersion: SBOS069; PackageVersion: 4040047-3/M, 06/2011; PackageReference: D8; PackageDescription: 8-Pin Plastic Small Outline, Body 4.9 x 3.9 mm, Pitch 1.27 mm; Supplier 1: Digi-Key; Supplier Part Number 1: INA122U-ND; Supplier 2: Farnell; Supplier Part Number 2: 1212407; Supplier 3: Newark; Supplier Part Number 3: 80K5899; Supplier 4: Mouser; Supplier Part Number 4: 595-INA122U; Eco-Plan: Green (RoHS & no Sb/Br); SubFamily: Single Supply; Mounting Technology: Surface Mount; Code_JEDEC: MS-012; ComponentLink1Description: Manufacturer URL; ComponentLink1URL: http://www.ti.com/; ComponentLink2Description: Datasheet; ComponentLink2URL: http://www.ti.com/general/docs/lit/getliterature.tsp?genericPartNumber=INA122&fileType=pdf; ComponentLink3Description: Package Specification; ComponentLink3URL: http://www.ti.com/litv/pdf/msoi002j
footprint TI-D8_N (SOIC, 8-Leads, Body 5x4mm, Pitch 1.27mm, IPC Medium Density)
footprint TI-D8_L (SOIC, 8-Leads, Body 5x4mm, Pitch 1.27mm, IPC High Density)
footprint TI-D8_M (SOIC, 8-Leads, Body 5x4mm, Pitch 1.27mm, IPC Low Density)
pins: 1 RG (in), 2 VIN- (in), 3 VIN+ (in), 4 V- (power), 5 REF (in), 6 VO (out), 7 V+ (power), 8 RG (in)

## INA122U/2K5
designator U?
Single Supply, MicroPower Instrumentation Amplifier, -40 to 85 degC, 8-pin SOIC (D8), Green (RoHS & no Sb/Br); Manufacturer: Texas Instruments; PartNumber: INA122U/2K5; CMRR(Min)(dB): 83; Gain(V/V): 5 to 10000; Input Bias Current (+/-)(Max)(nA): 25; Input Offset (+/-)(Max)(uV): 250; Input Offset Drift (+/-)(Max)(uV/Degrees Celsius): 3; Noise at 1kHz(Typ)(nV/rt(Hz)): 60; Non-Linearity (+/-)(Max)(%): 0.002; Number of Channels: 1; Quiescent Current (+/-)(Typ)(mA): 0.06; Vs(Max)(V): 36; Vs(Min)(V): 2.2; DatasheetVersion: SBOS069; PackageVersion: 4040047-3/M, 06/2011; PackageReference: D8; PackageDescription: 8-Pin Plastic Small Outline, Body 4.9 x 3.9 mm, Pitch 1.27 mm; Supplier 1: Digi-Key; Supplier Part Number 1: INA122U/2K5-ND; Supplier 2: Newark; Supplier Part Number 2: 74C9772; Supplier 3: Mouser; Supplier Part Number 3: 595-INA122U/2K5; Eco-Plan: Green (RoHS & no Sb/Br); SubFamily: Single Supply; Mounting Technology: Surface Mount; Code_JEDEC: MS-012; ComponentLink1Description: Manufacturer URL; ComponentLink1URL: http://www.ti.com/; ComponentLink2Description: Datasheet; ComponentLink2URL: http://www.ti.com/general/docs/lit/getliterature.tsp?genericPartNumber=INA122&fileType=pdf; ComponentLink3Description: Package Specification; ComponentLink3URL: http://www.ti.com/litv/pdf/msoi002j
footprint TI-D8_N (SOIC, 8-Leads, Body 5x4mm, Pitch 1.27mm, IPC Medium Density)
footprint TI-D8_L (SOIC, 8-Leads, Body 5x4mm, Pitch 1.27mm, IPC High Density)
footprint TI-D8_M (SOIC, 8-Leads, Body 5x4mm, Pitch 1.27mm, IPC Low Density)
pins: 1 RG (in), 2 VIN- (in), 3 VIN+ (in), 4 V- (power), 5 REF (in), 6 VO (out), 7 V+ (power), 8 RG (in)

## INA122U/2K5E4
designator U?
Single Supply, MicroPower Instrumentation Amplifier, -40 to 85 degC, 8-pin SOIC (D8), Green (RoHS & no Sb/Br); Manufacturer: Texas Instruments; PartNumber: INA122U/2K5E4; CMRR(Min)(dB): 83; Gain(V/V): 5 to 10000; Input Bias Current (+/-)(Max)(nA): 25; Input Offset (+/-)(Max)(uV): 250; Input Offset Drift (+/-)(Max)(uV/Degrees Celsius): 3; Noise at 1kHz(Typ)(nV/rt(Hz)): 60; Non-Linearity (+/-)(Max)(%): 0.012; Number of Channels: 1; Quiescent Current (+/-)(Typ)(mA): 0.06; Vs(Max)(V): 36; Vs(Min)(V): 2.2; DatasheetVersion: SBOS069; PackageVersion: 4040047-3/M, 06/2011; PackageReference: D8; PackageDescription: 8-Pin Plastic Small Outline, Body 4.9 x 3.9 mm, Pitch 1.27 mm; Supplier 1: Digi-Key; Supplier Part Number 1: INA122U/2K5E4-ND; Supplier 2: Mouser; Supplier Part Number 2: 595-INA122U/2K5E4; Eco-Plan: Green (RoHS & no Sb/Br); SubFamily: Single Supply; Mounting Technology: Surface Mount; Code_JEDEC: MS-012; ComponentLink1Description: Manufacturer URL; ComponentLink1URL: http://www.ti.com/; ComponentLink2Description: Datasheet; ComponentLink2URL: http://www.ti.com/general/docs/lit/getliterature.tsp?genericPartNumber=INA122&fileType=pdf; ComponentLink3Description: Package Specification; ComponentLink3URL: http://www.ti.com/litv/pdf/msoi002j
footprint TI-D8_N (SOIC, 8-Leads, Body 5x4mm, Pitch 1.27mm, IPC Medium Density)
footprint TI-D8_L (SOIC, 8-Leads, Body 5x4mm, Pitch 1.27mm, IPC High Density)
footprint TI-D8_M (SOIC, 8-Leads, Body 5x4mm, Pitch 1.27mm, IPC Low Density)
pins: 1 RG (in), 2 VIN- (in), 3 VIN+ (in), 4 V- (power), 5 REF (in), 6 VO (out), 7 V+ (power), 8 RG (in)

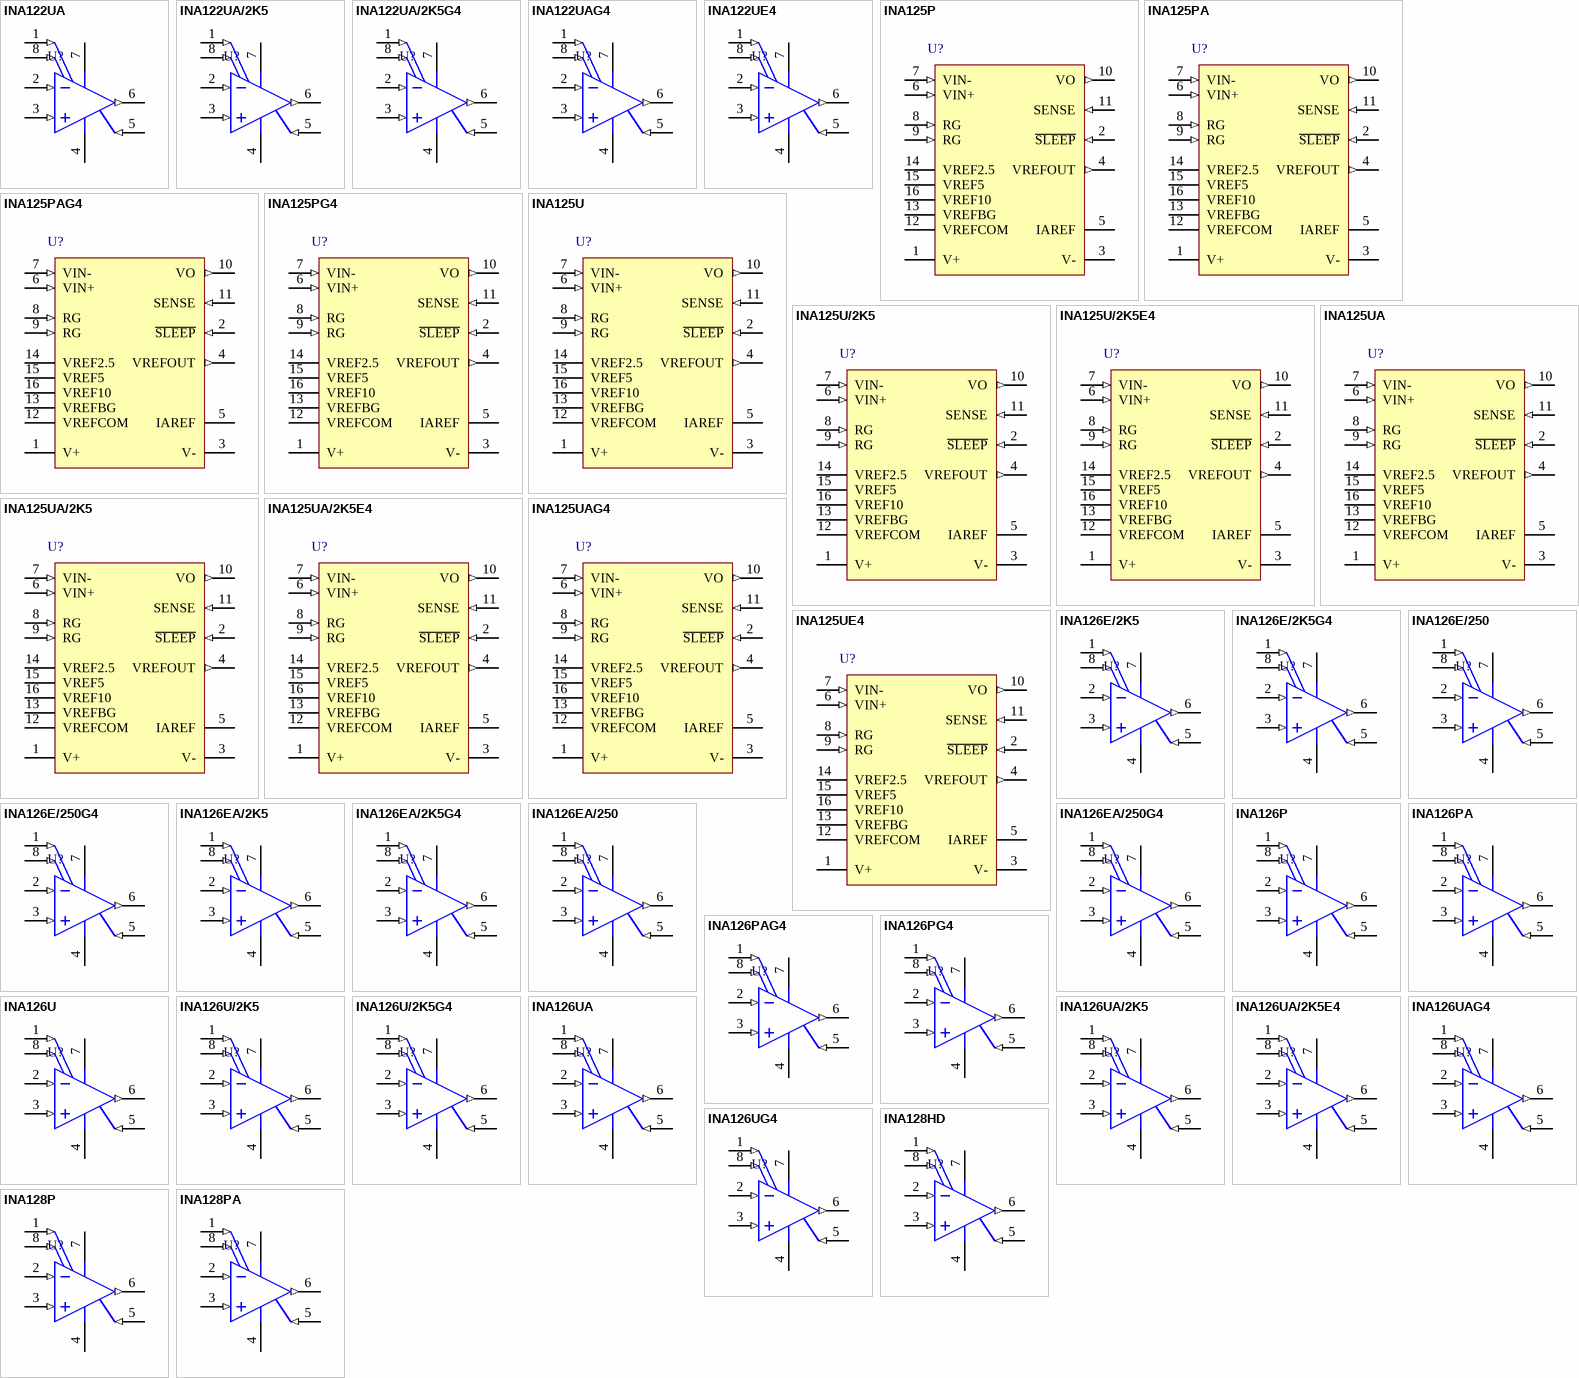
[diagram p3: symbols INA122UA to INA128PA]